# Altium integrated library Components - 18.08.24 - 13.13.IntLib: 1 symbol
Pins are listed as number, name and electrical type; pins without a type are passive.

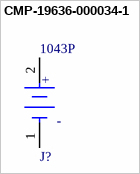
[diagram p0: symbol CMP-19636-000034-1]

## CMP-19636-000034-1
designator J?, comment 1043P
BATT HOLDER 18650 1 CELL PC PIN; Number of Cells: 1; Series: -; Termination: PC Pin; Package Quantity: 50; Min Operating Temperature: -50°C; Mount: Through Hole; Packaging: Tray; Max Operating Temperature: 145°C
footprint FP-1043P-MFG
pins: 1 C, 2 A
text: +